# EAGLE library part MAX1840 (library max1840)
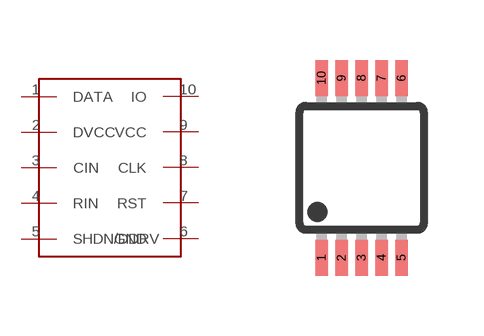
[diagram p0: symbol with the pads of UMAX10; footprint UMAX10]

Designator prefix -

## MAX1840  [UMAX10]
1  DATA
2  DVCC
3  CIN
4  RIN
5  SHDN/DDRV
6  GND
7  RST
8  CLK
9  VCC
10  IO

## Footprint UMAX10 (pad centres in mm)
smd 0.32 x 0.9: 1 -1,-2.25; 2 -0.5,-2.25; 3 0,-2.25; 4 0.5,-2.25; 5 1,-2.25; 6 1,2.25; 7 0.5,2.25; 8 0,2.25; 9 -0.5,2.25; 10 -1,2.25